# Altium schematic symbol library Schlib1.SchLib: 2 symbols
Pins are listed as number, name and electrical type; pins without a type are passive.

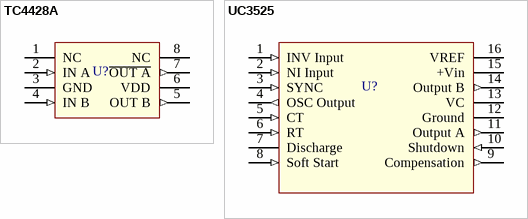
[diagram p0: symbols TC4428A to UC3525]

## TC4428A
designator U?  (value not drawn)
pins: 1 NC (power), 2 IN A (in), 3 GND (power), 4 IN B (in), 5 OUT B (out), 6 VDD (power), 7 ~{OUT A} (out), 8 NC (power)

## UC3525
designator U?  (value not drawn)
pins: 1 INV Input (in), 2 NI Input (in), 3 SYNC (in), 4 OSC Output (out), 5 CT (in), 6 RT (in), 7 Discharge (oc), 8 Soft Start (in), 9 Compensation (out), 10 Shutdown (in), 11 Output A (out), 12 Ground (power), 13 VC (power), 14 Output B (out), 15 +Vin (power), 16 VREF (power)